# Altium footprint library PARSEC.PcbLib: 20 footprints (part 2 of 2)
Each footprint in its own frame and in the unit in brackets; x right, y up, seen from the top. Pads: shape width x height; smd on the part's side, far side on the other; paste and mask are expansions set on the pad; w line width, h text height; cw(c..) or ccw(c..) is an arc to the next point about the centre after c.
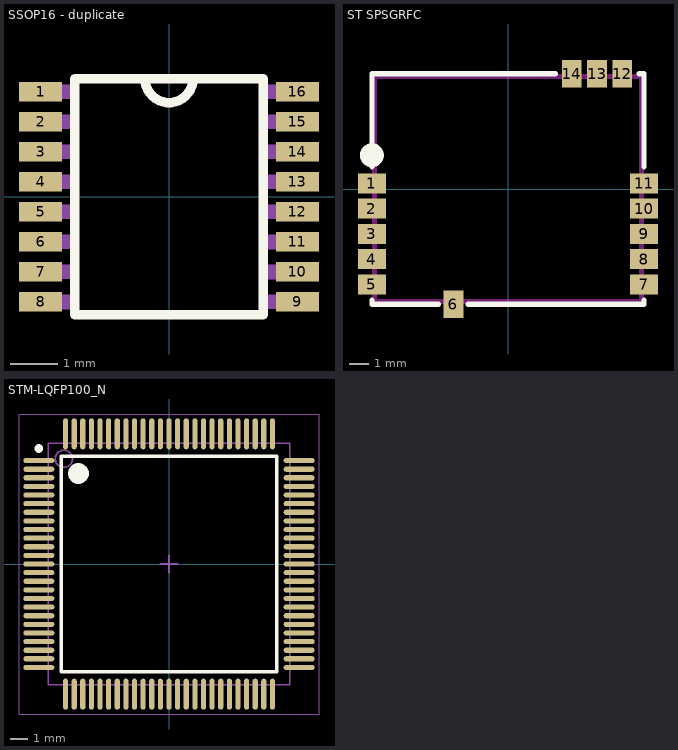
[diagram p1: the footprints below, top view; thin cyan lines are the x and y axes]

## SSOP16 [mm]

## SSOP16 - duplicate [mil]
pads (16):
  rect 36x16 smd: 1(-107,87.5) 2(-107,62.5) 3(-107,37.5) 4(-107,12.5) 5(-107,-12.5) 6(-107,-37.5) 7(-107,-62.5) 8(-107,-87.5) 9(107,-87.5) 10(107,-62.5) 11(107,-37.5) 12(107,-12.5) 13(107,12.5) 14(107,37.5) 15(107,62.5) 16(107,87.5)
Top Overlay:
  lines w8: -20,98.4 ccw(c0,98.4) 20,98.4 ; -78.4,-98.4 -78.4,98.4 78.4,98.4 78.4,-98.4 -78.4,-98.4
Mechanical 13:
  region: 122,81.59 78.59,81.59 78.59,93.5 122,93.5
  region: 122,56.56 78.58,56.56 78.58,68.5 122,68.5
  region: 122,31.54 78.59,31.54 78.59,43.5 122,43.5
  region: 122,6.5 78.53,6.5 78.53,18.5 122,18.5
  region: 122,-18.53 78.62,-18.53 78.62,-6.5 122,-6.5
  region: 122,-43.56 78.6,-43.56 78.6,-31.5 122,-31.5
  region: 122,-68.6 78.61,-68.6 78.61,-56.5 122,-56.5
  region: 122,-93.53 78.53,-93.53 78.53,-81.5 122,-81.5
  region: -78.5,-93.56 -122.08,-93.56 -122.08,-81.5 -78.5,-81.5
  region: -78.5,-68.52 -122.03,-68.52 -122.03,-56.5 -78.5,-56.5
  region: -78.5,-43.55 -122.13,-43.55 -122.13,-31.5 -78.5,-31.5
  region: -78.5,-18.53 -122.18,-18.53 -122.18,-6.5 -78.5,-6.5
  region: -78.5,6.51 -122.23,6.51 -122.23,18.5 -78.5,18.5
  region: -78.5,31.54 -122.17,31.54 -122.17,43.5 -78.5,43.5
  region: -78.5,56.53 -122.07,56.53 -122.07,68.5 -78.5,68.5
  region: -78.5,81.57 -122.11,81.57 -122.11,93.5 -78.5,93.5

## ST SPSGRFC [mm]
pads (14):
  rect 1.4x1 smd: 1(-6.85,0.28) 2(-6.85,-0.99) 3(-6.85,-2.26) 4(-6.85,-3.53) 5(-6.85,-4.8) 7(6.85,-4.8) 8(6.85,-3.53) 9(6.85,-2.26) 10(6.85,-0.99) 11(6.85,0.28)
  rect 1x1.4 smd: 6(-2.75,-5.8) 12(5.75,5.8) 13(4.48,5.8) 14(3.21,5.8)
Top Overlay:
  circle w0.6: c-6.85,1.7 r0.3
  lines w0.254: -6.9,1.7 -6.85,1.1 ; -6.85,-5.6 -6.85,-5.8 -3.5,-5.8 ; -6.85,2.1 -6.85,5.8 2.4,5.8 ; -2,-5.8 6.85,-5.8 6.85,-5.6 ; 6.6,5.8 6.85,5.8 6.85,1.1
Keep-Out Layer:
  lines w0.254: -6.723,-5.673 -6.723,5.673 6.723,5.673 6.723,-5.673 -6.723,-5.673

## STM-LQFP100_N [mm] "Thin QFP, 100-Leads, Body 14x14mm, Pitch 0.5mm, IPC Medium Density"
height 1.6
pads (100):
  oval 1.8x0.3 smd: 1(-7.55,6) 2(-7.55,5.5) 3(-7.55,5) 4(-7.55,4.5) 5(-7.55,4) 6(-7.55,3.5) 7(-7.55,3) 8(-7.55,2.5) 9(-7.55,2) 10(-7.55,1.5) 11(-7.55,1) 12(-7.55,0.5) 13(-7.55,0) 14(-7.55,-0.5) 15(-7.55,-1) 16(-7.55,-1.5) 17(-7.55,-2) 18(-7.55,-2.5) 19(-7.55,-3) 20(-7.55,-3.5) 21(-7.55,-4) 22(-7.55,-4.5) 23(-7.55,-5) 24(-7.55,-5.5) 25(-7.55,-6) 51(7.55,-6) 52(7.55,-5.5) 53(7.55,-5) 54(7.55,-4.5) 55(7.55,-4) 56(7.55,-3.5) 57(7.55,-3) 58(7.55,-2.5) 59(7.55,-2) 60(7.55,-1.5) 61(7.55,-1) 62(7.55,-0.5) 63(7.55,0) 64(7.55,0.5) 65(7.55,1) 66(7.55,1.5) 67(7.55,2) 68(7.55,2.5) 69(7.55,3) 70(7.55,3.5) 71(7.55,4) 72(7.55,4.5) 73(7.55,5) 74(7.55,5.5) 75(7.55,6)
  oval 0.3x1.8 smd: 26(-6,-7.55) 27(-5.5,-7.55) 28(-5,-7.55) 29(-4.5,-7.55) 30(-4,-7.55) 31(-3.5,-7.55) 32(-3,-7.55) 33(-2.5,-7.55) 34(-2,-7.55) 35(-1.5,-7.55) 36(-1,-7.55) 37(-0.5,-7.55) 38(0,-7.55) 39(0.5,-7.55) 40(1,-7.55) 41(1.5,-7.55) 42(2,-7.55) 43(2.5,-7.55) 44(3,-7.55) 45(3.5,-7.55) 46(4,-7.55) 47(4.5,-7.55) 48(5,-7.55) 49(5.5,-7.55) 50(6,-7.55) 76(6,7.55) 77(5.5,7.55) 78(5,7.55) 79(4.5,7.55) 80(4,7.55) 81(3.5,7.55) 82(3,7.55) 83(2.5,7.55) 84(2,7.55) 85(1.5,7.55) 86(1,7.55) 87(0.5,7.55) 88(0,7.55) 89(-0.5,7.55) 90(-1,7.55) 91(-1.5,7.55) 92(-2,7.55) 93(-2.5,7.55) 94(-3,7.55) 95(-3.5,7.55) 96(-4,7.55) 97(-4.5,7.55) 98(-5,7.55) 99(-5.5,7.55) 100(-6,7.55)
Top Overlay:
  circle w0.25: c-7.55,6.7 r0.125
  circle w0.6: c-5.25,5.25 r0.3
  lines w0.2: -6.25,-6.25 -6.25,6.25 6.25,6.25 6.25,-6.25 -6.25,-6.25
Mechanical 13:
  circle w0.1: c-6.1,6.1 r0.5
  lines w0.1: -7,-7 -7,7 7,7 7,-7 -7,-7
Mechanical 15:
  lines w0.05: -8.7,-8.7 -8.7,8.7 8.7,8.7 8.7,-8.7 -8.7,-8.7
  lines w0.1: -0.5,0 0.5,0 ; 0,-0.5 0,0.5
3D body: height 1.6, standoff 0.05, extent -7,-7 7,7